# EAGLE library part LM10CN (library programmable-air-components)
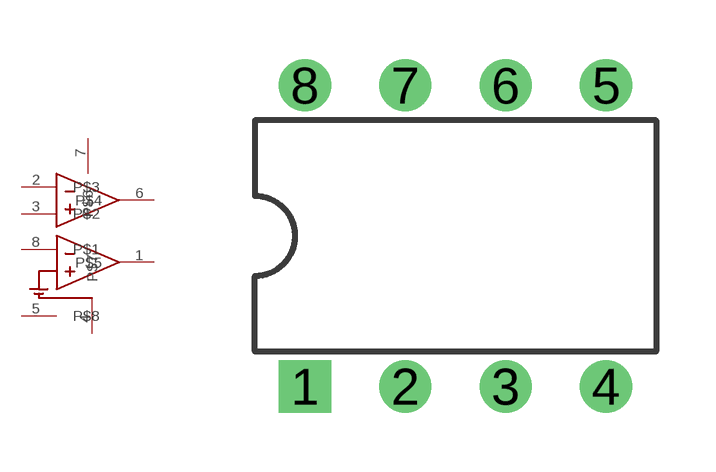
[diagram p2: symbol with the pads of DIP8; footprint DIP8]

Designator prefix -

## LM10CN  [DIP8]
1  P$5
2  P$3
3  P$2
4  P$7
5  P$8
6  P$4
7  P$6
8  P$1

## Footprint DIP8 (pad centres in mm)
drill 0.813 square: 1 -3.81,-3.81
drill 0.813: 2 -1.27,-3.81; 3 1.27,-3.81; 4 3.81,-3.81; 5 3.81,3.81; 6 1.27,3.81; 7 -1.27,3.81; 8 -3.81,3.81